# EAGLE library part OPA4171 (library jack_IC)
36V 3MhzGBP Quad Opamp (datasheet) <http://www.ti.com/lit/ds/symlink/opa4171.pdf>
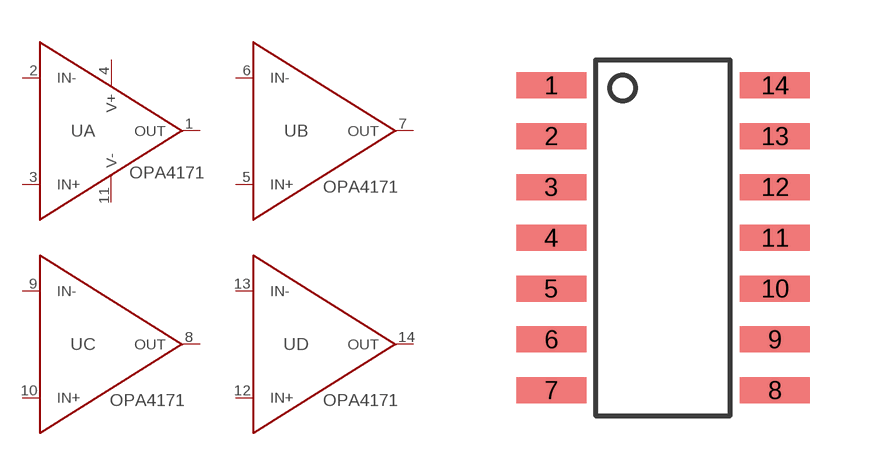
[diagram p18: symbol with the pads of SOIC_14; footprint SOIC_14]

Designator prefix U; gates A=OPAMP B=OPAMP_NO_RAILS C=OPAMP_NO_RAILS D=OPAMP_NO_RAILS

## OPA4171D  [SOIC_14]
1  A:OUT
2  A:IN-
3  A:IN+
4  A:V+
5  B:IN+
6  B:IN-
7  B:OUT
8  C:OUT
9  C:IN-
10  C:IN+
11  A:V-
12  D:IN+
13  D:IN-
14  D:OUT

## Footprint SOIC_14 (pad centres in mm)
smd 1.75 x 0.65: 1 -2.8,3.81; 2 -2.8,2.54; 3 -2.8,1.27; 4 -2.8,0; 5 -2.8,-1.27; 6 -2.8,-2.54; 7 -2.8,-3.81; 8 2.8,-3.81; 9 2.8,-2.54; 10 2.8,-1.27; 11 2.8,0; 12 2.8,1.27; 13 2.8,2.54; 14 2.8,3.81